# Altium footprint library PCB1.PcbLib: 3 footprints
Each footprint in its own frame and in the unit in brackets; x right, y up, seen from the top. Pads: shape width x height; smd on the part's side, far side on the other; paste and mask are expansions set on the pad; w line width, h text height; cw(c..) or ccw(c..) is an arc to the next point about the centre after c.
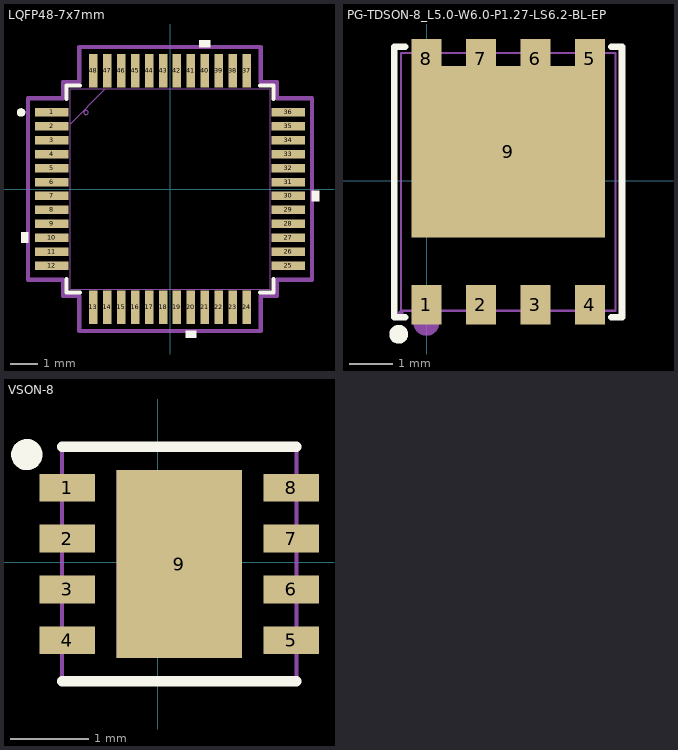
[diagram p0: the footprints below, top view; thin cyan lines are the x and y axes]

## LQFP48-7x7mm [mm]
pads (48):
  rect 1.194x0.305 smd paste+0 mask+0: 1(-4.25,2.75) 2(-4.25,2.25) 3(-4.25,1.75) 4(-4.25,1.25) 5(-4.25,0.75) 6(-4.25,0.25) 7(-4.25,-0.25) 8(-4.25,-0.75) 9(-4.25,-1.25) 10(-4.25,-1.75) 11(-4.25,-2.25) 12(-4.25,-2.75) 25(4.25,-2.75) 26(4.25,-2.25) 27(4.25,-1.75) 28(4.25,-1.25) 29(4.25,-0.75) 30(4.25,-0.25) 31(4.25,0.25) 32(4.25,0.75) 33(4.25,1.25) 34(4.25,1.75) 35(4.25,2.25) 36(4.25,2.75)
  rect 0.305x1.194 smd paste+0 mask+0: 13(-2.75,-4.25) 14(-2.25,-4.25) 15(-1.75,-4.25) 16(-1.25,-4.25) 17(-0.75,-4.25) 18(-0.25,-4.25) 19(0.25,-4.25) 20(0.75,-4.25) 21(1.25,-4.25) 22(1.75,-4.25) 23(2.25,-4.25) 24(2.75,-4.25) 37(2.75,4.25) 38(2.25,4.25) 39(1.75,4.25) 40(1.25,4.25) 41(0.75,4.25) 42(0.25,4.25) 43(-0.25,4.25) 44(-0.75,4.25) 45(-1.25,4.25) 46(-1.75,4.25) 47(-2.25,4.25) 48(-2.75,4.25)
Top Overlay:
  circle w0.152: c-5.351,2.75 r0.076
  region: 1.441,5.101 1.06,5.101 1.06,5.355 1.441,5.355
  region: 5.101,-0.059 5.355,-0.059 5.355,-0.44 5.101,-0.44
  region: 0.941,-5.101 0.56,-5.101 0.56,-5.355 0.941,-5.355
  region: -5.101,-1.559 -5.355,-1.559 -5.355,-1.94 -5.101,-1.94
  lines w0.152: -3.721,-3.235 -3.721,-3.721 -3.235,-3.721 ; -3.721,3.235 -3.721,3.721 -3.235,3.721 ; 3.235,-3.721 3.721,-3.721 3.721,-3.235 ; 3.235,3.721 3.721,3.721 3.721,3.235
Mechanical 13:
  circle w0: c-3.018,2.75 r0.076
  lines w0.025: -3.594,2.324 -2.324,3.594 ; -3.594,-3.594 -3.594,3.594 3.594,3.594 3.594,-3.594 -3.594,-3.594
Mechanical 15:
  lines w0.152: -5.101,-3.258 -5.101,3.258 -3.848,3.258 -3.848,3.848 -3.258,3.848 -3.258,5.101 3.258,5.101 3.258,3.848 3.848,3.848 3.848,3.258 5.101,3.258 5.101,-3.258 3.848,-3.258 3.848,-3.848 3.258,-3.848 3.258,-5.101 -3.258,-5.101 -3.258,-3.848 -3.848,-3.848 -3.848,-3.258 -5.101,-3.258
3D body: height 0.25, standoff 0, extent 0,0 0.254,0.254

## PG-TDSON-8_L5.0-W6.0-P1.27-LS6.2-BL-EP [mm]
pads (9):
  rect 0.7x0.925 smd paste-100 mask+0.051: 1(-0.007,-2.888) 2(1.263,-2.888) 3(2.533,-2.888) 4(3.803,-2.888) 5(3.803,2.842) 6(2.533,2.842) 7(1.263,2.842) 8(-0.007,2.842)
  rect 4.5x4 smd paste-100 mask+0.05: 9(1.898,0.682)
Top Overlay:
  circle w0.22: c-0.652,-3.573 r0.11
  lines w0.152: -0.506,-3.174 -0.753,-3.174 -0.753,3.128 -0.506,3.128 ; 4.301,-3.174 4.549,-3.174 4.549,3.128 4.301,3.128
Top Paste:
  region: -0.356,3.304 0.346,3.304 0.346,2.684 0.916,2.684 0.916,3.302 1.616,3.302 1.616,2.684 2.179,2.684 2.179,3.306 2.886,3.306 2.886,2.682 3.45,2.682 3.45,3.306 4.154,3.306 4.154,2.684 4.148,2.684 4.148,-1.318 -0.355,-1.318 -0.355,2.705
  region: 3.451,-2.426 4.152,-2.426 4.152,-3.348 3.456,-3.348 3.456,-3.346
  region: 2.181,-2.426 2.882,-2.426 2.882,-3.348 2.186,-3.348 2.186,-3.346
  region: 0.911,-2.426 1.612,-2.426 1.612,-3.348 0.916,-3.348 0.916,-3.346
  region: -0.359,-2.426 0.342,-2.426 0.342,-3.348 -0.354,-3.348 -0.354,-3.346
Mechanical 6:
  circle w0.3: c-0.007,-3.307 r0.15
Mechanical 15:
  region: -0.241,2.515 4.05,2.515 4.05,-1.163 -0.258,-1.163
  region: 3.583,3.07 4.023,3.07 4.023,2.49 3.583,2.49
  region: 2.313,3.07 2.753,3.07 2.753,2.49 2.313,2.49
  region: 1.043,3.07 1.483,3.07 1.483,2.49 1.043,2.49
  region: -0.227,3.07 0.213,3.07 0.213,2.49 -0.227,2.49
  region: -0.227,-2.5 0.213,-2.5 0.213,-3.08 -0.227,-3.08
  region: 1.043,-2.5 1.483,-2.5 1.483,-3.08 1.043,-3.08
  region: 2.313,-2.5 2.753,-2.5 2.753,-3.08 2.313,-3.08
  region: 3.583,-2.5 4.023,-2.5 4.023,-3.08 3.583,-3.08
  region: -0.542,-3.08 -0.542,-3.055 -0.577,-3.02 -0.627,-3.02 -0.662,-3.055 -0.662,-3.08 -0.662,-3.105 -0.627,-3.14 -0.577,-3.14 -0.542,-3.105
  lines w0.051: -0.602,-3.023 4.398,-3.023 4.398,2.977 -0.602,2.977 -0.602,-3.023

## VSON-8 [mil]
pads (9):
  rect 28x14 smd paste+0 mask+1.97: 1(-45.69,37.44) 2(-45.69,11.85) 3(-45.69,-13.74) 4(-45.69,-39.33) 5(67.11,-39.33) 6(67.11,-13.74) 7(67.11,11.85) 8(67.11,37.44)
  rect 62.99x94.49 smd paste+0 mask+1.97: 9(10.71,-0.95)
Top Overlay:
  circle w7.87: c-66.06,54.17 r3.94
  lines w5.08: -48.34,-60 69.77,-60 ; -48.34,58.11 69.77,58.11
Mechanical 15:
  region: 42.21,46.3 42.21,-48.19 -20.78,-48.19 -20.78,46.3
  region: 54.02,31.34 54.02,43.55 69.77,43.55 69.77,31.34
  region: 54.02,5.75 54.02,17.96 69.77,17.96 69.77,5.75
  region: 54.02,-19.84 54.02,-7.63 69.77,-7.63 69.77,-19.84
  region: 54.02,-45.43 54.02,-33.22 69.77,-33.22 69.77,-45.43
  region: -48.34,-45.43 -48.34,-33.22 -32.59,-33.22 -32.59,-45.43
  region: -48.34,-19.84 -48.34,-7.63 -32.59,-7.63 -32.59,-19.84
  region: -48.34,5.75 -48.34,17.96 -32.59,17.96 -32.59,5.75
  region: -48.34,31.34 -48.34,43.55 -32.59,43.55 -32.59,31.34
  lines w2: -48.34,-60 69.77,-60 69.77,58.11 -48.34,58.11 -48.34,-60